# Altium schematic symbol library Axial 0.8 Induc.SchLib: 1 symbol
Pins are listed as number, name and electrical type; pins without a type are passive.

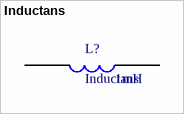
[diagram p0: symbol Inductans]

## Inductans
designator L?  value 1mH
footprint Axial 0.8
pins: 1, 2